# EAGLE library part ATTINY0016 (library dubec)
AVR® 8-bit CPU
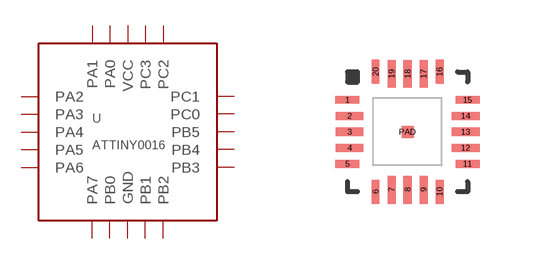
[diagram p37: symbol with the pads of 20-VQFN-2; footprint 20-VQFN-2]

Designator prefix -

## ATTINY0016M (DIGIKEY_PART_#: ATTINY1616-MFRCT-ND; EEPROM: 256; EURO: 15.52/25; FLASH: 16KB; MANUFACTURER: Microchip Technology; MFG_PART_#: ATTINY1616-MFR; RAM: 2K; TEMP: -40°C ~ 125°C (TA))  [20-VQFN-2]
1  PA2  pas
2  PA3  pas
3  GND  pas
4  VCC  pas
5  PA4  pas
6  PA5  pas
7  PA6  pas
8  PA7  pas
9  PB5  pas
10  PB4  pas
11  PB3  pas
12  PB2  pas
13  PB1  pas
14  PB0  pas
15  PC0  pas
16  PC1  pas
17  PC2  pas
18  PC3  pas
19  PA0  pas
20  PA1  pas
PAD  GND  pas

## Footprint 20-VQFN-2 (pad centres in mm)
smd 0.6 x 0.2: 1 -1.5,0.8; 5 -1.5,-0.8; 11 1.5,-0.8; 15 1.5,0.8
smd 0.7 x 0.2: 2 -1.45,0.4; 3 -1.45,0; 4 -1.45,-0.4; 12 1.45,-0.4; 13 1.45,0; 14 1.45,0.4
smd 0.2 x 0.6: 6 -0.8,-1.5; 10 0.8,-1.5; 16 0.8,1.5; 20 -0.8,1.5
smd 0.2 x 0.7: 7 -0.4,-1.45; 8 0,-1.45; 9 0.4,-1.45; 17 0.4,1.45; 18 0,1.45; 19 -0.4,1.45
smd 0.3 x 0.3: PAD 0,0